# EAGLE library part LM2676 (library Deckelplatine)
LM2676 SIMPLE SWITCHER ® High Efficiency 3A Step-Down Voltage Regulator The LM2676 series of regulators are monolithic integrated circuits which provide all of the active functions for a step- down (buck) switching regulator capable of driving up to 3A loads with excellent line and load regulation characteristics. High efficiency ( > 90%) is obtained through the use of a low ON-resistance DMOS power switch. The series consists of fixed output voltages of 3.3V, 5V and 12V and an adjustable output version. Reichelt.de <http://www.reichelt.de/ICs-LM-LS-/LM-2676-S5-0/3/index.html?ACTION=3&GROUPID=2912&ARTICLE=109378&START=0&OFFSET=16&> Datasheet <http://www.reichelt.de/index.html?&ACTION=7&LA=3&OPEN=0&INDEX=0&FILENAME=A200%252FDS_LM_2676.pdf>
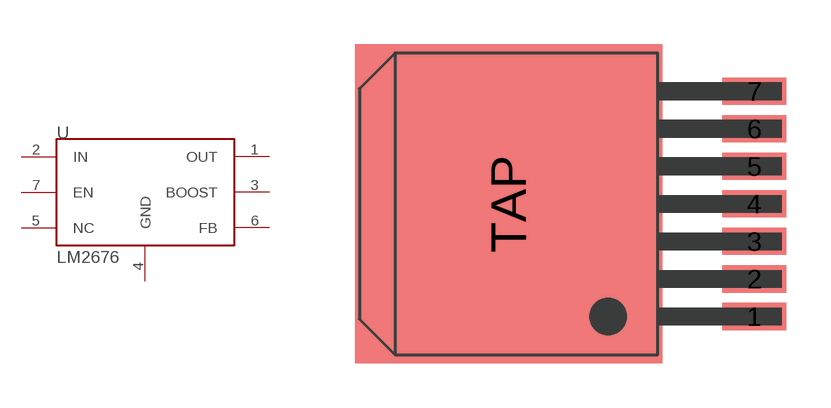
[diagram p0: symbol with the pads of TO-263-7; footprint TO-263-7]

Designator prefix U

## LM2676S  [TO-263-7]
1  OUT
2  IN  pwr
3  BOOST
4  GND  sup
5  NC  nc
6  FB
7  EN

## Footprint TO-263-7 (pad centres in mm)
TO-263 Gehäuse mit 7 Anschlüssen National Semiconductor
smd 2.16 x 0.92: 1 8.76,-3.81; 2 8.76,-2.54; 3 8.76,-1.27; 4 8.76,0; 5 8.76,1.27; 6 8.76,2.54; 7 8.76,3.81
smd 10.4 x 10.8: TAP 0.44,0